# EAGLE library part 74LVC1T45W6-7 (library 74LVC1T45W6-7)
74LVC Series 5.5 V 3-State SMT Single Bit Dual Supply Transceiver - SOT-26 Check prices <https://pricing.snapeda.com/parts/74LVC1T45W6-7/Diodes%20Inc./view-part?ref=eda>
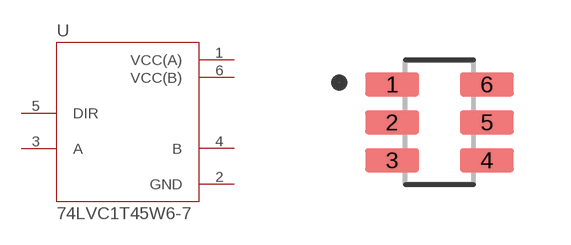
[diagram p0: symbol with the pads of SOT95P285X140-6N; footprint SOT95P285X140-6N]

Designator prefix U

## 74LVC1T45W6-7 (Availability: Warning; Description: Voltage Level Translator Bidirectional 1 Circuit 1 Channel SOT-26; MF: Diodes Inc.; MP: 74LVC1T45W6-7; Package: SOT-23-6 Diodes Inc.; Price: None; Purchase-URL: https://pricing.snapeda.com/search/part/74LVC1T45W6-7/?ref=eda)  [SOT95P285X140-6N]
1  VCC(A)  pwr
2  GND  pwr
3  A
4  B
5  DIR  in
6  VCC(B)  pwr

## Footprint SOT95P285X140-6N (pad centres in mm)
smd 1.35 x 0.6: 1 -1.185,0.95; 2 -1.185,0; 3 -1.185,-0.95; 4 1.185,-0.95; 5 1.185,0; 6 1.185,0.95